# Altium schematic symbol library cstce16m0v53_r0.SchLib: 1 symbol
Pins are listed as number, name and electrical type; pins without a type are passive.

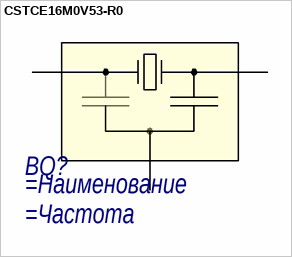
[diagram p0: symbol CSTCE16M0V53-R0]

## CSTCE16M0V53-R0
designator BQ?
=Описание; Частотa: =Частота
pins: 1, 2, 3